# EAGLE library part MOUDLE_ARDUINO-38P (library CAN-BUS-Shield-v1.2)
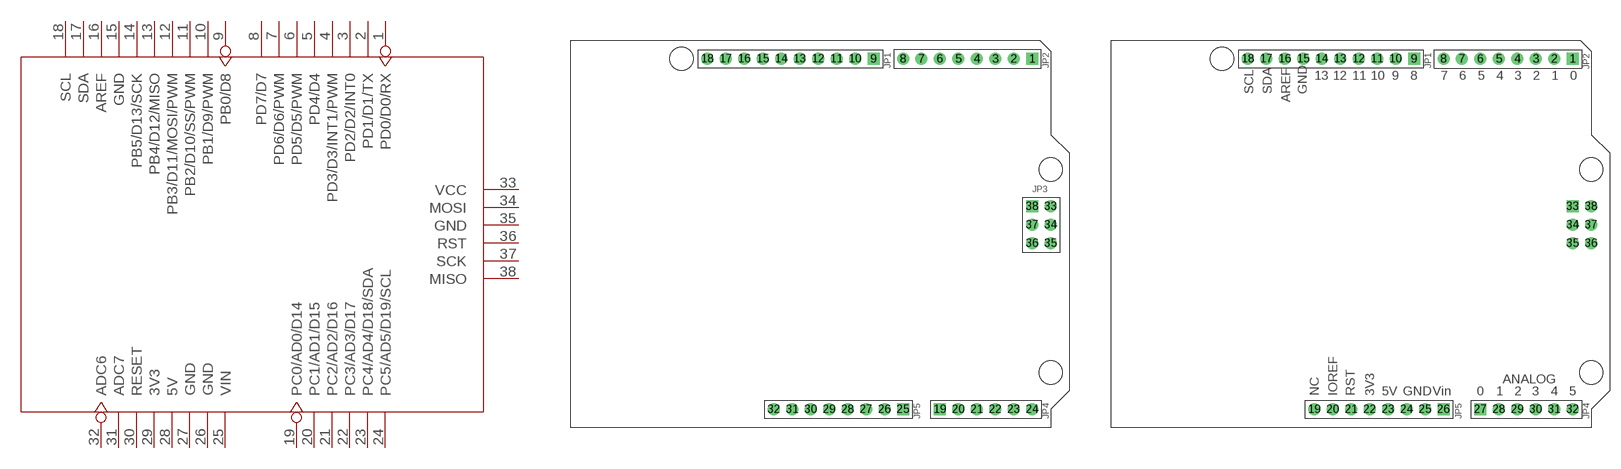
[diagram p4: symbol with the pads of MOUDLE_ARDUINO-38P; footprints MOUDLE_ARDUINO-38P, MOUDLE_ARDUINO-38P-WITH/-SILK-500519002]

Designator prefix U

## MOUDLE_ARDUINO-38P  [MOUDLE_ARDUINO-38P]
1  PD0/D0/RX
2  PD1/D1/TX
3  PD2/D2/INT0
4  PD3/D3/INT1/PWM
5  PD4/D4
6  PD5/D5/PWM
7  PD6/D6/PWM
8  PD7/D7
9  PB0/D8
10  PB1/D9/PWM
11  PB2/D10/SS/PWM
12  PB3/D11/MOSI/PWM
13  PB4/D12/MISO
14  PB5/D13/SCK
15  GND
16  AREF
17  SDA
18  SCL
19  PC0/AD0/D14
20  PC1/AD1/D15
21  PC2/AD2/D16
22  PC3/AD3/D17
23  PC4/AD4/D18/SDA
24  PC5/AD5/D19/SCL
25  VIN
26  GND
27  GND
28  5V
29  3V3
30  RESET
31  ADC7
32  ADC6
33  VCC
34  MOSI
35  GND
36  RST
37  SCK
38  MISO

## MOUDLE_ARDUINO-38PWITH/-SILK  [MOUDLE_ARDUINO-38P-WITH/-SILK-500519002]
1  PD0/D0/RX
2  PD1/D1/TX
3  PD2/D2/INT0
4  PD3/D3/INT1/PWM
5  PD4/D4
6  PD5/D5/PWM
7  PD6/D6/PWM
8  PD7/D7
9  PB0/D8
10  PB1/D9/PWM
11  PB2/D10/SS/PWM
12  PB3/D11/MOSI/PWM
13  PB4/D12/MISO
14  PB5/D13/SCK
15  GND
16  AREF
17  SDA
18  SCL
19  ADC6
20  ADC7
21  RESET
22  3V3
23  5V
24  GND
25  GND
26  VIN
27  PC0/AD0/D14
28  PC1/AD1/D15
29  PC2/AD2/D16
30  PC3/AD3/D17
31  PC4/AD4/D18/SDA
32  PC5/AD5/D19/SCL
33  MISO
34  SCK
35  RST
36  GND
37  MOSI
38  VCC

## MOUDLE_ARDUINO-38PWITH/O-SILK  [MOUDLE_ARDUINO-38P-500519002]
Pads as for MOUDLE_ARDUINO-38P

## Footprint MOUDLE_ARDUINO-38P (pad centres in mm)
drill 0.889 pad 1.651 square: 1 63.5,50.8; 9 41.656,50.8; 19 50.8,2.54; 25 45.72,2.54; 38 63.5,30.48
drill 0.889 pad 1.651: 2 60.96,50.8; 3 58.42,50.8; 4 55.88,50.8; 5 53.34,50.8; 6 50.8,50.8; 7 48.26,50.8; 8 45.72,50.8; 10 39.116,50.8; 11 36.576,50.8; 12 34.036,50.8; 13 31.496,50.8; 14 28.956,50.8; 15 26.416,50.8; 16 23.876,50.8; 17 21.336,50.8; 18 18.796,50.8; 20 53.34,2.54; 21 55.88,2.54; 22 58.42,2.54; 23 60.96,2.54; 24 63.5,2.54; 26 43.18,2.54; 27 40.64,2.54; 28 38.1,2.54; 29 35.56,2.54; 30 33.02,2.54; 31 30.48,2.54; 32 27.94,2.54; 33 66.04,30.48; 34 66.04,27.94; 35 66.04,25.4; 36 63.5,25.4; 37 63.5,27.94
hole 3.2 at 15.24,50.8
hole 3.2 at 66.04,35.56
hole 3.2 at 66.04,7.62

## Footprint MOUDLE_ARDUINO-38P-WITH/-SILK-500519002 (pad centres in mm)
drill 0.889 pad 1.651 square: 1 63.5,50.8; 9 41.656,50.8; 26 45.72,2.54; 27 50.8,2.54; 33 63.5,30.48
drill 0.889 pad 1.651: 2 60.96,50.8; 3 58.42,50.8; 4 55.88,50.8; 5 53.34,50.8; 6 50.8,50.8; 7 48.26,50.8; 8 45.72,50.8; 10 39.116,50.8; 11 36.576,50.8; 12 34.036,50.8; 13 31.496,50.8; 14 28.956,50.8; 15 26.416,50.8; 16 23.876,50.8; 17 21.336,50.8; 18 18.796,50.8; 19 27.94,2.54; 20 30.48,2.54; 21 33.02,2.54; 22 35.56,2.54; 23 38.1,2.54; 24 40.64,2.54; 25 43.18,2.54; 28 53.34,2.54; 29 55.88,2.54; 30 58.42,2.54; 31 60.96,2.54; 32 63.5,2.54; 34 63.5,27.94; 35 63.5,25.4; 36 66.04,25.4; 37 66.04,27.94; 38 66.04,30.48
hole 3.2 at 15.24,50.8
hole 3.2 at 66.04,35.56
hole 3.2 at 66.04,7.62

## Footprint MOUDLE_ARDUINO-38P-500519002 (pad centres in mm)
drill 0.889 pad 1.651 square: 1 63.5,50.8; 9 41.656,50.8; 19 50.8,2.54; 25 45.72,2.54; 38 63.5,30.48
drill 0.889 pad 1.651: 2 60.96,50.8; 3 58.42,50.8; 4 55.88,50.8; 5 53.34,50.8; 6 50.8,50.8; 7 48.26,50.8; 8 45.72,50.8; 10 39.116,50.8; 11 36.576,50.8; 12 34.036,50.8; 13 31.496,50.8; 14 28.956,50.8; 15 26.416,50.8; 16 23.876,50.8; 17 21.336,50.8; 18 18.796,50.8; 20 53.34,2.54; 21 55.88,2.54; 22 58.42,2.54; 23 60.96,2.54; 24 63.5,2.54; 26 43.18,2.54; 27 40.64,2.54; 28 38.1,2.54; 29 35.56,2.54; 30 33.02,2.54; 31 30.48,2.54; 32 27.94,2.54; 33 66.04,30.48; 34 66.04,27.94; 35 66.04,25.4; 36 63.5,25.4; 37 63.5,27.94
hole 3.2 at 15.24,50.8
hole 3.2 at 66.04,35.56
hole 3.2 at 66.04,7.62